# Altium footprint library MPU9250 Module.PcbLib: 1 footprints
Each footprint in its own frame and in the unit in brackets; x right, y up, seen from the top. Pads: shape width x height; smd on the part's side, far side on the other; paste and mask are expansions set on the pad; w line width, h text height; cw(c..) or ccw(c..) is an arc to the next point about the centre after c.
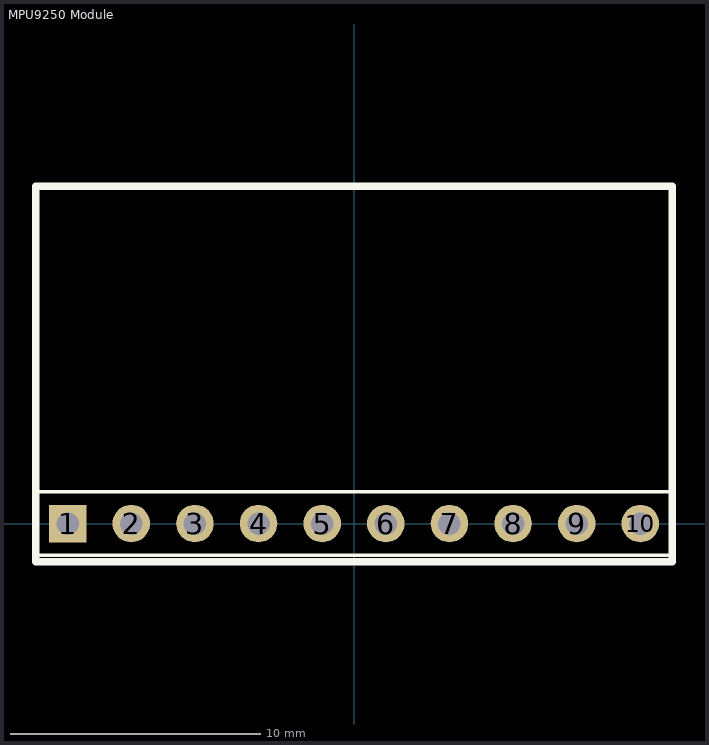
[diagram p0: the footprint, top view; thin cyan lines are the x and y axes]

## MPU9250 Module [mm]
pads (10):
  rect 1.5x1.5 hole 0.9: 1(-11.43,0)
  round 1.5 hole 0.9: 2(-8.89,0) 3(-6.35,0) 4(-3.81,0) 5(-1.27,0) 6(1.27,0) 7(3.81,0) 8(6.35,0) 9(8.89,0) 10(11.43,0)
Top Overlay:
  lines w0.15: -12.7,-1.27 12.7,-1.27 12.7,1.27 -10.795,1.27 -12.7,1.27 -12.7,-1.27
  lines w0.3: -12.7,-1.524 12.7,-1.524 12.7,13.462 -12.7,13.462 -12.7,-1.524
Mechanical 1:
  lines w0.01: -12.7,-1.524 12.7,-1.524 12.7,13.462 -12.7,13.462 -12.7,-1.524
3D body "MPU-9250.stp": height 6.09, standoff -6.68, extent -12.7,-1.531 12.7,13.469